# Altium footprint library PCB1.PcbLib: 55 footprints (part 3 of 4)
Each footprint in its own frame and in the unit in brackets; x right, y up, seen from the top. Pads: shape width x height; smd on the part's side, far side on the other; paste and mask are expansions set on the pad; w line width, h text height; cw(c..) or ccw(c..) is an arc to the next point about the centre after c.
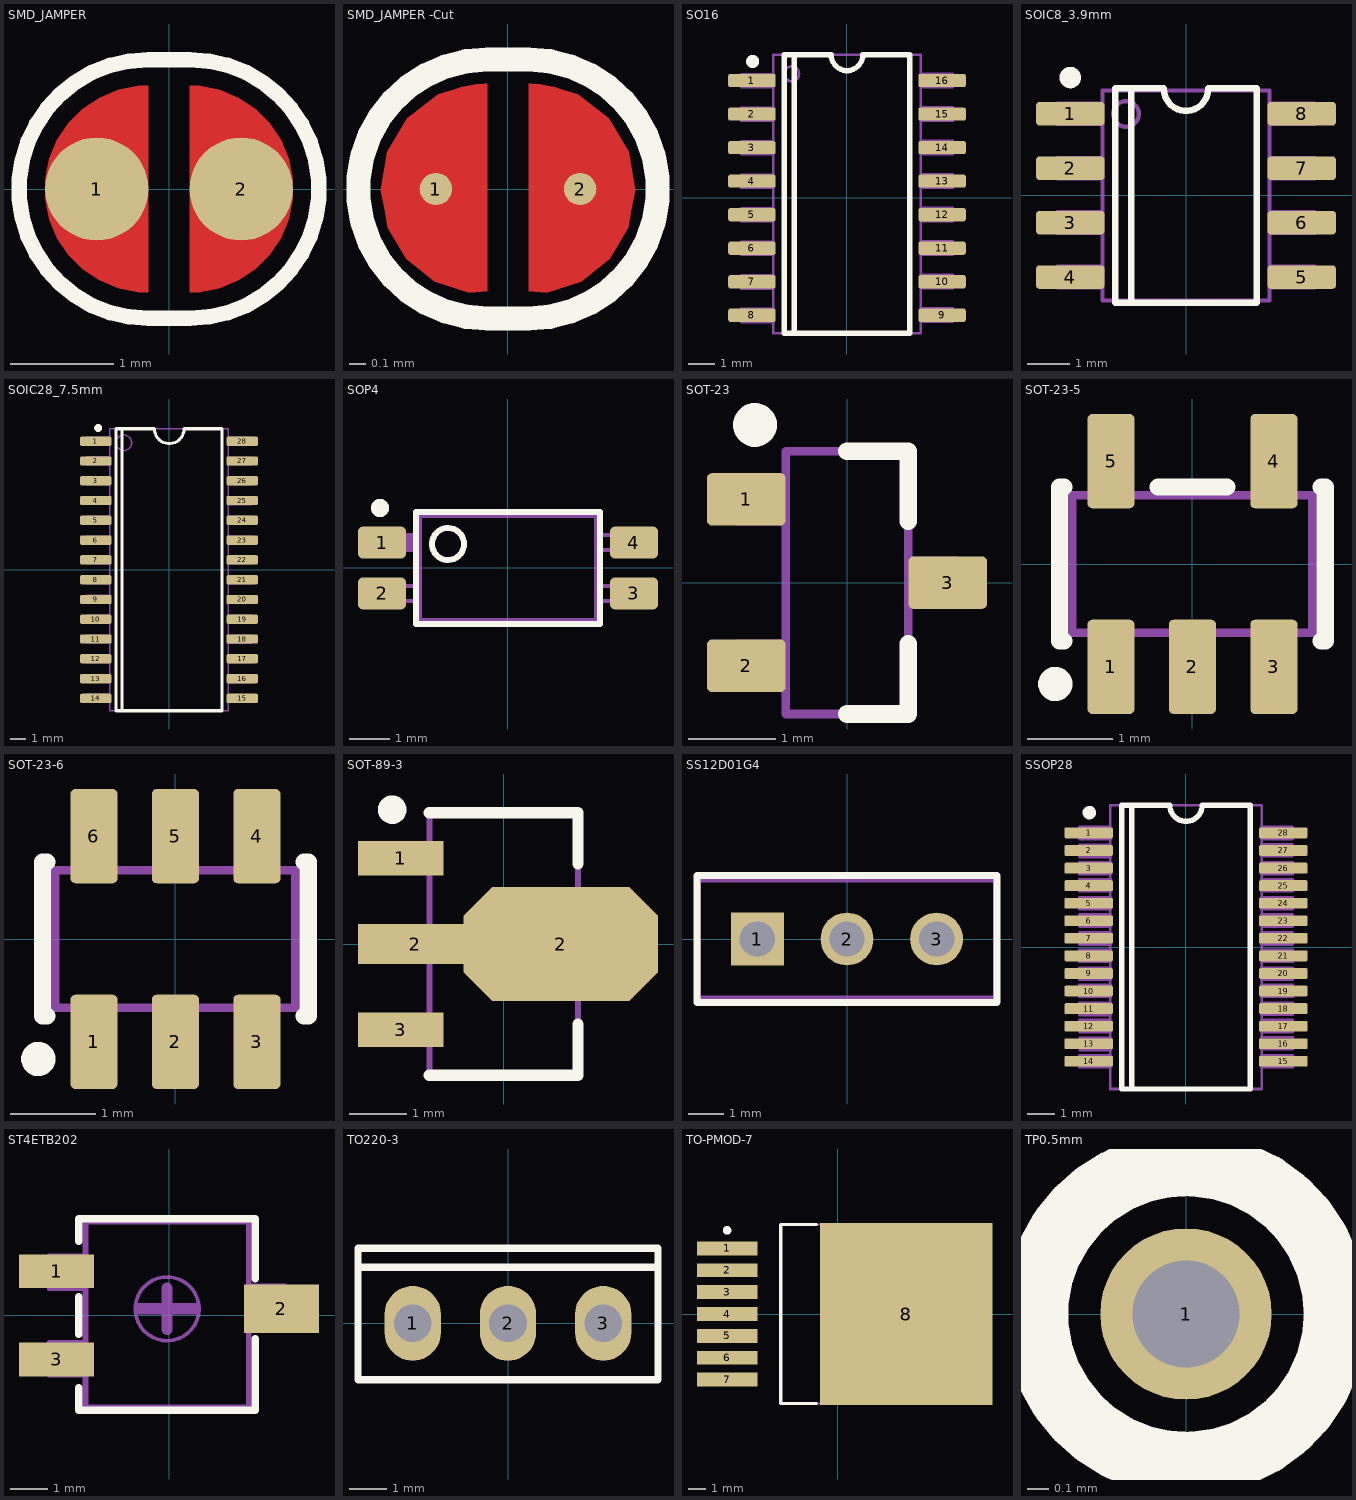
[diagram p2: the footprints below, top view; thin cyan lines are the x and y axes]

## SMD_JAMPER [mm]
pads (2):
  round 1 smd: 1(-0.7,0) 2(0.7,0)
Top Layer:
  region: -0.2,1 -0.2,-1 -0.298,-1 -0.492,-0.962 -0.674,-0.886 -0.837,-0.777 -0.977,-0.637 -1.086,-0.474 -1.162,-0.292 -1.2,-0.098 -1.2,0 -1.2,0.098 -1.162,0.292 -1.086,0.474 -0.977,0.637 -0.837,0.777 -0.674,0.886 -0.492,0.962 -0.298,1
  region: 0.2,1 0.2,-1 0.298,-1 0.492,-0.962 0.674,-0.886 0.837,-0.777 0.977,-0.637 1.086,-0.474 1.162,-0.292 1.2,-0.098 1.2,0 1.2,0.098 1.162,0.292 1.086,0.474 0.977,0.637 0.837,0.777 0.674,0.886 0.492,0.962 0.298,1
Top Overlay:
  lines w0.15: -0.2,-1.254 cw(c-0.2,0) -0.2,1.254 0.2,1.254 cw(c0.2,0) 0.2,-1.254 -0.2,-1.254
Mechanical 5:
  lines w0.1: -0.2,-1.254 cw(c-0.2,0) -0.2,1.254 0.2,1.254 cw(c0.2,0) 0.2,-1.254 -0.2,-1.254

## SMD_JAMPER -Cut [mm]
pads (2):
  round 0.2 smd mask+0.102: 1(-0.446,0)
  round 0.2 smd: 2(0.446,0)
Top Layer:
  region: -0.127,0.65
  region: -0.127,0.65
  region: -0.127,0.65 -0.151,0.65 -0.199,0.646 -0.247,0.639 -0.294,0.628 -0.317,0.621 -0.432,0.586 -0.623,0.437 -0.746,0.229 -0.786,-0.009 -0.762,-0.127 -0.744,-0.238 -0.63,-0.432 -0.454,-0.573 -0.239,-0.64 -0.127,-0.633
  region: 0.127,0.65 0.151,0.65 0.199,0.646 0.247,0.639 0.294,0.628 0.317,0.621 0.432,0.586 0.623,0.437 0.746,0.23 0.786,-0.009 0.762,-0.127 0.744,-0.238 0.63,-0.432 0.454,-0.573 0.239,-0.64 0.127,-0.633
Top Overlay:
  lines w0.15: -0.127,-0.8 cw(c-0.127,0) -0.127,0.8 0.127,0.8 cw(c0.127,0) 0.127,-0.8 -0.127,-0.8
Mechanical 1:
  region: -0.127,0.635
  region: -0.127,0.65
Mechanical 5:
  lines w0.1: -0.127,-0.8 cw(c-0.127,0) -0.127,0.8 0.127,0.8 cw(c0.127,0) 0.127,-0.8 -0.127,-0.8

## SO16 [mm] "5.3mm Wide,0.65mm Pitch"
height 2
pads (16):
  rrect30% 1.8x0.5 smd: 1(-3.6,4.445) 2(-3.6,3.175) 3(-3.6,1.905) 4(-3.6,0.635) 5(-3.6,-0.635) 6(-3.6,-1.905) 7(-3.6,-3.175) 8(-3.6,-4.445) 9(3.6,-4.445) 10(3.6,-3.175) 11(3.6,-1.905) 12(3.6,-0.635) 13(3.6,0.635) 14(3.6,1.905) 15(3.6,3.175) 16(3.6,4.445)
Top Overlay:
  circle w0.25: c-3.575,5.17 r0.125
  lines w0.2: -2,-5.13 -2,5.37 ; -2.375,-5.13 -2.375,5.42 -0.6,5.42 ccw(c0,5.42) 0.6,5.42 2.375,5.42 2.375,-5.13 -2.375,-5.13
Mechanical 5:
  circle w0.1: c-2.1,4.7 r0.283
  lines w0.1: -2.8,-4.7 -4,-4.7 -4,-4.2 -2.8,-4.2 ; -2.8,-3.43 -4,-3.43 -4,-2.93 -2.8,-2.93 ; -2.8,-2.16 -4,-2.16 -4,-1.66 -2.8,-1.66 ; -2.8,-0.89 -4,-0.89 -4,-0.39 -2.8,-0.39 ; -2.8,0.38 -4,0.38 -4,0.88 -2.8,0.88 ; -2.8,1.65 -4,1.65 -4,2.15 -2.8,2.15 ; -2.8,2.92 -4,2.92 -4,3.42 -2.8,3.42 ; -2.8,4.19 -4,4.19 -4,4.69 -2.8,4.69 ; 2.8,-4.69 4,-4.69 4,-4.19 2.8,-4.19 ; 2.8,-3.42 4,-3.42 4,-2.92 2.8,-2.92 ; 2.8,-2.15 4,-2.15 4,-1.65 2.8,-1.65 ; 2.8,-0.88 4,-0.88 4,-0.38 2.8,-0.38 ; 2.8,0.39 4,0.39 4,0.89 2.8,0.89 ; 2.8,1.66 4,1.66 4,2.16 2.8,2.16 ; 2.8,2.93 4,2.93 4,3.43 2.8,3.43 ; 2.8,4.2 4,4.2 4,4.7 2.8,4.7 ; -2.8,-5.13 -2.8,5.42 ; -2.8,-5.13 2.8,-5.13 ; -2.8,-5.13 2.8,-5.13 ; -2.8,-5.13 -2.8,5.42 ; -2.8,5.42 2.8,5.42 ; -2.8,5.42 2.8,5.42 ; 2.8,-5.13 2.8,5.42 ; 2.8,-5.13 2.8,5.42
Mechanical 13:
  lines w0.1: -2.8,-5.13 -2.8,5.42 ; -2.8,-5.13 2.8,-5.13 ; -2.8,-5.13 2.8,-5.13 ; -2.8,-5.13 -2.8,5.42 ; -2.8,5.42 2.8,5.42 ; -2.8,5.42 2.8,5.42 ; 2.8,-5.13 2.8,5.42 ; 2.8,-5.13 2.8,5.42

## SOIC8_3.9mm [mm]
pads (8):
  rrect30% 1.6x0.55 smd: 1(-2.7,1.905) 2(-2.7,0.635) 3(-2.7,-0.635) 4(-2.7,-1.905) 5(2.7,-1.905) 6(2.7,-0.635) 7(2.7,0.635) 8(2.7,1.905)
Top Overlay:
  circle w0.25: c-2.7,2.75 r0.125
  lines w0.15: -1.275,-2.5 -1.275,2.5 ; -0.517,2.487 ccw(c0,2.487) 0.517,2.487 ; -0.517,2.5 -1.65,2.5 -1.65,-2.5 1.65,-2.5 1.65,2.5 0.517,2.5
Mechanical 5:
  circle w0.1: c-1.4,1.9 r0.3
  rectangle: -3,1.665 -1.95,2.145
  lines w0.1: -1.95,-2.145 -3,-2.145 -3,-1.665 -1.95,-1.665 ; -1.95,-0.875 -3,-0.875 -3,-0.395 -1.95,-0.395 ; -1.95,0.395 -3,0.395 -3,0.875 -1.95,0.875 ; -1.95,1.665 -3,1.665 -3,2.145 -1.95,2.145 ; 1.95,-2.145 3,-2.145 3,-1.665 1.95,-1.665 ; 1.95,-0.875 3,-0.875 3,-0.395 1.95,-0.395 ; 1.95,0.395 3,0.395 3,0.875 1.95,0.875 ; 1.95,1.665 3,1.665 3,2.145 1.95,2.145 ; -1.95,-2.45 -1.95,2.45 1.95,2.45 1.95,-2.45 -1.95,-2.45
  text ".designator" at 0.5,-2.2 h1
Mechanical 13:
  lines w0.1: -1.95,-2.45 -1.95,2.45 1.95,2.45 1.95,-2.45 -1.95,-2.45
3D body "User Library-SOIC8_JEDEC_MS-012AA.STEP": height 1.75, standoff -0.01, extent -3.099,-2.5 3.1,2.5

## SOIC28_7.5mm [mm]
pads (28):
  rrect30% 2x0.6 smd: 1(-4.7,8.255) 2(-4.7,6.985) 3(-4.7,5.715) 4(-4.7,4.445) 5(-4.7,3.175) 6(-4.7,1.905) 7(-4.7,0.635) 8(-4.7,-0.635) 9(-4.7,-1.905) 10(-4.7,-3.175) 11(-4.7,-4.445) 12(-4.7,-5.715) 13(-4.7,-6.985) 14(-4.7,-8.255) 15(4.7,-8.255) 16(4.7,-6.985) 17(4.7,-5.715) 18(4.7,-4.445) 19(4.7,-3.175) 20(4.7,-1.905) 21(4.7,-0.635) 22(4.7,0.635) 23(4.7,1.905) 24(4.7,3.175) 25(4.7,4.445) 26(4.7,5.715) 27(4.7,6.985) 28(4.7,8.255)
Top Overlay:
  circle w0.25: c-4.55,9.105 r0.125
  lines w0.2: -3.025,-9.05 -3.025,9.05 ; -3.4,-9.05 3.4,-9.05 3.4,9.05 0.967,9.05 cw(c0.017,9.05) -0.933,9.05 -3.4,9.05 -3.4,-9.05
Mechanical 5:
  circle w0.1: c-2.9,8.155 r0.5
  rectangle: -5.3,8.01 -3.8,8.51
  lines w0.1: -3.8,-8.5 -5.3,-8.5 -5.3,-8 -3.8,-8 ; -3.8,-7.23 -5.3,-7.23 -5.3,-6.73 -3.8,-6.73 ; -3.8,-5.96 -5.3,-5.96 -5.3,-5.46 -3.8,-5.46 ; -3.8,-4.69 -5.3,-4.69 -5.3,-4.19 -3.8,-4.19 ; -3.8,-3.42 -5.3,-3.42 -5.3,-2.92 -3.8,-2.92 ; -3.8,-2.15 -5.3,-2.15 -5.3,-1.65 -3.8,-1.65 ; -3.8,-0.88 -5.3,-0.88 -5.3,-0.38 -3.8,-0.38 ; -3.8,0.39 -5.3,0.39 -5.3,0.89 -3.8,0.89 ; -3.8,1.66 -5.3,1.66 -5.3,2.16 -3.8,2.16 ; -3.8,2.93 -5.3,2.93 -5.3,3.43 -3.8,3.43 ; -3.8,4.2 -5.3,4.2 -5.3,4.7 -3.8,4.7 ; -3.8,5.47 -5.3,5.47 -5.3,5.97 -3.8,5.97 ; -3.8,6.755 -5.3,6.755 -5.3,7.255 -3.8,7.255 ; -3.8,8.01 -5.3,8.01 -5.3,8.51 -3.8,8.51 ; 3.8,-8.51 5.3,-8.51 5.3,-8.01 3.8,-8.01 ; 3.8,-7.24 5.3,-7.24 5.3,-6.74 3.8,-6.74 ; 3.8,-5.97 5.3,-5.97 5.3,-5.47 3.8,-5.47 ; 3.8,-4.7 5.3,-4.7 5.3,-4.2 3.8,-4.2 ; 3.8,-3.43 5.3,-3.43 5.3,-2.93 3.8,-2.93 ; 3.8,-2.16 5.3,-2.16 5.3,-1.66 3.8,-1.66 ; 3.8,-0.89 5.3,-0.89 5.3,-0.39 3.8,-0.39 ; 3.8,0.38 5.3,0.38 5.3,0.88 3.8,0.88 ; 3.8,1.65 5.3,1.65 5.3,2.15 3.8,2.15 ; 3.8,2.92 5.3,2.92 5.3,3.42 3.8,3.42 ; 3.8,4.19 5.3,4.19 5.3,4.69 3.8,4.69 ; 3.8,5.46 5.3,5.46 5.3,5.96 3.8,5.96 ; 3.8,6.73 5.3,6.73 5.3,7.23 3.8,7.23 ; 3.8,8 5.3,8 5.3,8.5 3.8,8.5 ; -3.8,-9.055 -3.8,9.055 3.8,9.055 3.8,-9.055 -3.8,-9.055
Mechanical 13:
  circle w0.1: c-2.9,8.155 r0.5
  lines w0.1: -3.8,-9.055 3.8,-9.055 3.8,9.055 -3.8,9.055 -3.8,-9.055

## SOP4 [mm]
pads (4):
  rrect30% 1.2x0.8 smd: 1(-3.15,0.635) 2(-3.15,-0.635) 3(3.15,-0.635) 4(3.15,0.635)
Top Overlay:
  circle w0.254: c-3.2,1.5 r0.1
  circle w0.15: c-1.5,0.6 r0.4
  lines w0.15: -2.3,-1.4 2.3,-1.4 2.3,1.4 -2.3,1.4 -2.3,-1.4
Mechanical 5:
  circle w0.1: c-1.5,0.6 r0.4
  rectangle: -3.5,0.445 -2.2,0.825
  lines w0.1: -2.2,-0.825 -3.5,-0.825 -3.5,-0.445 -2.2,-0.445 ; -2.2,0.445 -3.5,0.445 -3.5,0.825 -2.2,0.825 ; 2.2,-0.825 3.5,-0.825 3.5,-0.445 2.2,-0.445 ; 2.2,0.445 3.5,0.445 3.5,0.825 2.2,0.825 ; -2.2,-1.3 -2.2,1.3 2.2,1.3 2.2,-1.3 -2.2,-1.3
  text ".designator" at -1.9,-0.9 h0.75
Mechanical 13:
  lines w0.1: -3,-0.825 -3,-0.445 ; -3,0.445 -3,0.825 ; -2.2,-0.825 -3.5,-0.825 -3.5,-0.445 -2.2,-0.445 ; -2.2,0.445 -3.5,0.445 -3.5,0.825 -2.2,0.825 ; 2.2,-0.825 3.5,-0.825 3.5,-0.445 2.2,-0.445 ; 2.2,0.445 3.5,0.445 3.5,0.825 2.2,0.825 ; 3,-0.825 3,-0.445 ; 3,0.445 3,0.825 ; -2.2,-1.3 2.2,-1.3 2.2,1.3 -2.2,1.3 -2.2,-1.3
3D body "SW3DPS-TLP281-DEFAULT.STEP": height 1.9, standoff 0, extent -3.5,-1.3 3.5,1.3

## SOT-23 [mm] "SOT23, 3-Leads, Body 2.9x1.3mm, Pitch 0.95mm, Lead Span 2.4mm"
height 1.12
pads (3):
  rrect20% 0.9x0.6 smd: 1(-1.15,0.95) 2(-1.15,-0.95) 3(1.15,0)
Top Overlay:
  circle w0.25: c-1.05,1.8 r0.125
  lines w0.2: 0,-1.5 0.7,-1.5 0.7,-0.7 ; 0,1.5 0.7,1.5 0.7,0.7
Mechanical 5:
  rectangle: -1.25,0.7 -0.7,1.2
  lines w0.1: -0.7,-1.2 -1.25,-1.2 -1.25,-0.7 -0.7,-0.7 ; -0.7,0.7 -1.25,0.7 -1.25,1.2 -0.7,1.2 ; 0.7,-0.25 1.25,-0.25 1.25,0.25 0.7,0.25 ; -0.7,-1.5 0.7,-1.5 0.7,1.5 -0.7,1.5 -0.7,-1.5
  text ".designator" at -0.26,1.33 h0.6
Mechanical 13:
  lines w0.1: -0.7,-1.2 -1.25,-1.2 -1.25,-0.7 -0.7,-0.7 ; -0.7,0.7 -1.25,0.7 -1.25,1.2 -0.7,1.2 ; 0.7,-0.25 1.25,-0.25 1.25,0.25 0.7,0.25 ; -0.7,-1.5 -0.7,1.5 0.7,1.5 0.7,-1.5 -0.7,-1.5
3D body "User Library-SOT95P280X135-3M[SOT23_TO-236AA].STEP": height 1.3, standoff 0, extent -1.5,-1.5 1.5,1.5

## SOT-23-5 [mm]
pads (5):
  rrect20% 0.55x1.1 smd: 1(-0.95,-1.2) 2(0,-1.2) 3(0.95,-1.2) 4(0.95,1.2) 5(-0.95,1.2)
Top Overlay:
  circle w0.2: c-1.6,-1.4 r0.1
  lines w0.2: -1.5,-0.9 -1.55,-0.9 -1.55,0.9 -1.5,0.9 ; -0.4,0.9 0.4,0.9 ; 1.5,-0.9 1.55,-0.9 1.55,0.9 1.5,0.9
Mechanical 5:
  rectangle: -1.15,-1.4 -0.75,-0.8
  lines w0.1: -1.15,-0.8 -1.15,-1.4 -0.75,-1.4 -0.75,-0.8 ; -1.15,0.8 -1.15,1.4 -0.75,1.4 -0.75,0.8 ; -0.2,-0.8 -0.2,-1.4 0.2,-1.4 0.2,-0.8 ; 0.75,-0.8 0.75,-1.4 1.15,-1.4 1.15,-0.8 ; 0.75,0.8 0.75,1.4 1.15,1.4 1.15,0.8 ; -1.4,-0.8 -1.4,0.8 1.4,0.8 1.4,-0.8 -1.4,-0.8
  text ".designator" at -1.23,-0.31 h0.55
Mechanical 13:
  lines w0.1: -1.15,-0.8 -1.15,-1.4 -0.75,-1.4 -0.75,-0.8 ; -1.15,0.8 -1.15,1.4 -0.75,1.4 -0.75,0.8 ; -0.2,-0.8 -0.2,-1.4 0.2,-1.4 0.2,-0.8 ; 0.75,-0.8 0.75,-1.4 1.15,-1.4 1.15,-0.8 ; 0.75,0.8 0.75,1.4 1.15,1.4 1.15,0.8 ; -1.4,-0.8 1.4,-0.8 1.4,0.8 -1.4,0.8 -1.4,-0.8
3D body "User Library-SOT23-5.STEP": height 1.24, standoff 0.14, extent -1.45,-1.4 1.449,1.4

## SOT-23-6 [mm] "SOT-23/SC-74A; 6 Leads; Body 3.1 x 3.1 mm"
height 1.45
pads (6):
  rrect20% 0.55x1.1 smd: 1(-0.95,-1.2) 2(0,-1.2) 3(0.95,-1.2) 4(0.95,1.2) 5(0,1.2) 6(-0.95,1.2)
Top Overlay:
  circle w0.2: c-1.6,-1.4 r0.1
  lines w0.2: -1.5,-0.9 -1.55,-0.9 -1.55,0.9 -1.5,0.9 ; 1.5,-0.9 1.55,-0.9 1.55,0.9 1.5,0.9
Mechanical 5:
  rectangle: -1.15,-1.4 -0.75,-0.8
  lines w0.1: -1.15,-0.8 -1.15,-1.4 -0.75,-1.4 -0.75,-0.8 ; -1.15,0.8 -1.15,1.4 -0.75,1.4 -0.75,0.8 ; -0.2,-0.8 -0.2,-1.4 0.2,-1.4 0.2,-0.8 ; -0.2,0.8 -0.2,1.4 0.2,1.4 0.2,0.8 ; 0.75,-0.8 0.75,-1.4 1.15,-1.4 1.15,-0.8 ; 0.75,0.8 0.75,1.4 1.15,1.4 1.15,0.8 ; -1.4,-0.8 -1.4,0.8 1.4,0.8 1.4,-0.8 -1.4,-0.8
  text ".designator" at -1.23,-0.31 h0.55
Mechanical 13:
  lines w0.1: -1.15,-0.8 -1.15,-1.4 -0.75,-1.4 -0.75,-0.8 ; -1.15,0.8 -1.15,1.4 -0.75,1.4 -0.75,0.8 ; -0.2,-0.8 -0.2,-1.4 0.2,-1.4 0.2,-0.8 ; -0.2,0.8 -0.2,1.4 0.2,1.4 0.2,0.8 ; 0.75,-0.8 0.75,-1.4 1.15,-1.4 1.15,-0.8 ; 0.75,0.8 0.75,1.4 1.15,1.4 1.15,0.8 ; -1.4,-0.8 -1.4,0.8 1.4,0.8 1.4,-0.8 -1.4,-0.8
3D body "User Library-SOT23-6-2.STEP": height 1.45, standoff 0, extent -1.45,-1.4 1.45,1.4

## SOT-89-3 [mm]
pads (4):
  rect 1.5x0.6 smd: 1(-1.8,1.5) 3(-1.8,-1.5)
  rect 2x0.7 smd: 2(-1.55,0)
  oct 3.4x2 smd: 2(1,0)
Top Overlay:
  circle w0.25: c-1.95,2.35 r0.125
  lines w0.2: -1.3,-2.3 1.3,-2.3 1.3,-1.4 ; -1.3,2.3 1.3,2.3 1.3,1.4
Mechanical 5:
  rectangle: -2.3,1.3 -1.3,1.7
  lines w0.1: -1.3,-1.7 -2.3,-1.7 -2.3,-1.3 -1.3,-1.3 ; -1.3,-0.25 -2.3,-0.25 -2.3,0.25 -1.3,0.25 ; -1.3,1.3 -2.3,1.3 -2.3,1.7 -1.3,1.7 ; 1.3,-0.8 1.8,-0.8 1.8,0.8 1.3,0.8 ; -1.3,-2.3 1.3,-2.3 1.3,2.3 -1.3,2.3 -1.3,-2.3
  text ".designator" at -0.45,2 h0.9
Mechanical 13:
  rectangle: -2.3,1.3 -1.3,1.7
  lines w0.1: -1.3,-1.7 -2.3,-1.7 -2.3,-1.3 -1.3,-1.3 ; -1.3,-0.25 -2.3,-0.25 -2.3,0.25 -1.3,0.25 ; -1.3,1.3 -2.3,1.3 -2.3,1.7 -1.3,1.7 ; 1.3,-0.8 1.8,-0.8 1.8,0.8 1.3,0.8 ; -1.3,-2.3 -1.3,2.3 1.3,2.3 1.3,-2.3 -1.3,-2.3
3D body "User Library-SOT89-3.STEP": height 1.54, standoff 0, extent -2.2,-2.25 2.05,2.25

## SS12D01G4 [mm] "YAMANE SW Pitch 2.5mm"
height 7.5
pads (3):
  rect 1.5x1.5 hole 1: 1(-2.54,0)
  round 1.5 hole 1: 2(0,0) 3(2.54,0)
Top Overlay:
  lines w0.2: -4.25,-1.8 4.25,-1.8 4.25,1.8 -4.25,1.8 -4.25,-1.8
Mechanical 5:
  lines w0.1: -4.191,-1.651 -4.191,1.651 4.191,1.651 4.191,-1.651 -4.191,-1.651

## SSOP28 [mm] "5.3mm Wide,0.65mm Pitch"
height 2
pads (28):
  rrect30% 1.8x0.4 smd: 1(-3.6,4.225) 2(-3.6,3.575) 3(-3.6,2.925) 4(-3.6,2.275) 5(-3.6,1.625) 6(-3.6,0.975) 7(-3.6,0.325) 8(-3.6,-0.325) 9(-3.6,-0.975) 10(-3.6,-1.625) 11(-3.6,-2.275) 12(-3.6,-2.925) 13(-3.6,-3.575) 14(-3.6,-4.225) 15(3.6,-4.225) 16(3.6,-3.575) 17(3.6,-2.925) 18(3.6,-2.275) 19(3.6,-1.625) 20(3.6,-0.975) 21(3.6,-0.325) 22(3.6,0.325) 23(3.6,0.975) 24(3.6,1.625) 25(3.6,2.275) 26(3.6,2.925) 27(3.6,3.575) 28(3.6,4.225)
Top Overlay:
  circle w0.25: c-3.575,4.975 r0.125
  lines w0.2: -2,-5.25 -2,5.25 ; -2.375,-5.25 2.375,-5.25 2.375,5.25 0.6,5.25 cw(c0,5.25) -0.6,5.25 -2.375,5.25 -2.375,-5.25
Mechanical 5:
  rectangle: -3.937,4 -2.8,4.445
  lines w0.1: -2.794,-4.445 -3.937,-4.445 -3.937,-4 -2.794,-4 ; -2.794,-3.143 -3.937,-3.143 -3.937,-2.698 -2.794,-2.698 ; -2.794,-2.508 -3.937,-2.508 -3.937,-2.063 -2.794,-2.063 ; -2.794,-1.842 -3.937,-1.842 -3.937,-1.397 -2.794,-1.397 ; -2.794,-1.207 -3.937,-1.207 -3.937,-0.762 -2.794,-0.762 ; -2.794,-0.54 -3.937,-0.54 -3.937,-0.095 -2.794,-0.095 ; -2.794,0.095 -3.937,0.095 -3.937,0.54 -2.794,0.54 ; -2.794,0.761 -3.937,0.761 -3.937,1.206 -2.794,1.206 ; -2.794,1.396 -3.937,1.396 -3.937,1.841 -2.794,1.841 ; -2.794,2.063 -3.937,2.063 -3.937,2.508 -2.794,2.508 ; -2.794,2.698 -3.937,2.698 -3.937,3.143 -2.794,3.143 ; -2.794,3.333 -3.937,3.333 -3.937,3.778 -2.794,3.778 ; -2.794,4 -3.937,4 -3.937,4.445 -2.794,4.445 ; -2.788,-3.81 -3.931,-3.81 -3.931,-3.365 -2.788,-3.365 ; 2.788,3.365 3.931,3.365 3.931,3.81 2.788,3.81 ; 2.794,-4.445 3.937,-4.445 3.937,-4 2.794,-4 ; 2.794,-3.778 3.937,-3.778 3.937,-3.333 2.794,-3.333 ; 2.794,-3.143 3.937,-3.143 3.937,-2.698 2.794,-2.698 ; 2.794,-2.508 3.937,-2.508 3.937,-2.063 2.794,-2.063 ; 2.794,-1.841 3.937,-1.841 3.937,-1.396 2.794,-1.396 ; 2.794,-1.206 3.937,-1.206 3.937,-0.761 2.794,-0.761 ; 2.794,-0.54 3.937,-0.54 3.937,-0.095 2.794,-0.095 ; 2.794,0.095 3.937,0.095 3.937,0.54 2.794,0.54 ; 2.794,0.762 3.937,0.762 3.937,1.207 2.794,1.207 ; 2.794,1.397 3.937,1.397 3.937,1.842 2.794,1.842 ; 2.794,2.063 3.937,2.063 3.937,2.508 2.794,2.508 ; 2.794,2.698 3.937,2.698 3.937,3.143 2.794,3.143 ; 2.794,4 3.937,4 3.937,4.445 2.794,4.445 ; -2.8,-5.25 2.8,-5.25 ; -2.8,-5.25 -2.8,5.25 ; -2.8,-5.25 -2.8,5.25 ; -2.8,-5.25 2.8,-5.25 ; -2.8,5.25 2.8,5.25 ; -2.8,5.25 2.8,5.25 ; 2.8,-5.25 2.8,5.25 ; 2.8,-5.25 2.8,5.25
  text ".designator" at 0.635,-3.302 h1.5
Mechanical 13:
  lines w0.1: -2.8,-5.25 2.8,-5.25 ; -2.8,-5.25 -2.8,5.25 ; -2.8,-5.25 -2.8,5.25 ; -2.8,-5.25 2.8,-5.25 ; -2.8,5.25 2.8,5.25 ; -2.8,5.25 2.8,5.25 ; 2.8,-5.25 2.8,5.25 ; 2.8,-5.25 2.8,5.25
3D body "User Library-ssop28_model.STEP": height 2.01, standoff 0.01, extent -3.9,-5.12 3.9,5.08

## ST4ETB202 [mm]
pads (3):
  rect 2x0.9 smd: 1(-3,1.175) 3(-3,-1.175)
  rect 2x1.3 smd: 2(3,0.175)
Top Overlay:
  lines w0.2: -2.4,-1.925 -2.4,-2.525 2.3,-2.525 2.3,-0.625 ; -2.4,-0.5 -2.4,0.5 ; -2.4,1.975 -2.4,2.575 2.3,2.575 2.3,0.975
Mechanical 5:
  rectangle: -3.2,0.7 -2.25,1.6
  lines w0.1: -2.3,-1.6 -3.2,-1.6 -3.2,-0.7 -2.3,-0.7 ; -2.3,0.7 -3.2,0.7 -3.2,1.6 -2.3,1.6 ; 2.2,-0.4 3.1,-0.4 3.1,0.8 2.2,0.8 ; -2.25,-2.425 2.15,-2.425 2.15,2.6 -2.25,2.6 -2.25,-2.425
  text ".designator" at -0.4,1.675 h0.7
Mechanical 13:
  circle w0.1: c-0.05,0.175 r0.85
  lines w0.1: -2.2,-1.6 -3.2,-1.6 -3.2,-0.7 -2.2,-0.7 ; -2.2,0.7 -3.2,0.7 -3.2,1.6 -2.2,1.6 ; 2.1,-0.4 3.1,-0.4 3.1,0.8 2.1,0.8 ; -2.2,-2.525 2.1,-2.525 2.1,2.475 -2.2,2.475 -2.2,-2.525
  lines w0.3: -0.8,0.175 0.7,0.175 ; -0.05,-0.375 -0.05,0.725

## TO220-3 [mm] "ストレートリード"
pads (3):
  oval 1.5x2 hole 1: 1(-2.54,0) 2(0,0) 3(2.54,0)
Top Overlay:
  lines w0.2: -4,1.5 4,1.5 ; -4,-1.5 -4,2 4,2 4,-1.5 -4,-1.5

## TO-PMOD-7 [mm]
pads (8):
  rect 3.5x0.8 smd: 1(-6.425,3.81) 2(-6.425,2.54) 3(-6.425,1.27) 4(-6.425,0) 5(-6.425,-1.27) 6(-6.425,-2.54) 7(-6.425,-3.81)
  rect 10x10.55 smd: 8(3.975,0)
Top Overlay:
  circle w0.25: c-6.425,4.86 r0.125
  lines w0.2: -1.25,-5.2 -3.3,-5.2 -3.3,5.2 -1.25,5.2
Mechanical 5:
  lines w0.1: 6.1,-5.2 7.7,-5.2 ; 6.1,-5.2 -3.3,-5.2 -3.3,5.2 6.1,5.2 ; 6.1,-5.2 6.1,5.2 ; 6.1,5.2 7.7,5.2 ; 7.7,-5.2 7.7,-5.2 ; 7.7,-5.2 7.7,5.2 ; 7.7,5.2 7.7,5.2
Mechanical 13:
  lines w0.1: 6.1,-5.2 6.1,5.2 ; 6.1,-5.2 -3.3,-5.2 -3.3,5.2 6.1,5.2 ; 6.1,-5.2 7.7,-5.2 ; 6.1,5.2 7.7,5.2 ; 7.7,-5.2 7.7,5.2 ; 7.7,-5.2 7.7,-5.2 ; 7.7,5.2 7.7,5.2
3D body "User Library-TO-PMOD-7-1.step": height 4.57, standoff 0, extent -6.45,-5.08 7.325,5.08

## TP0.5mm [mm]
pads (1):
  round 0.8 hole 0.5: 1(0,0)
Top Overlay:
  circle w0.3: c0,0 r0.7
Bottom Overlay:
  circle w0.3: c0,0 r0.7